# Altium schematic symbol library PMEG10020ELRX.SchLib: 1 symbol
Pins are listed as number, name and electrical type; pins without a type are passive.

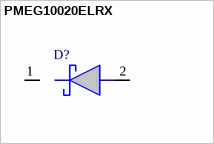
[diagram p0: symbol PMEG10020ELRX]

## PMEG10020ELRX
designator D?
Schottky Diodes & Rectifiers 2A Schottky Barrier Rectifier; Manufacturer_Name: Nexperia; Geometry.Height: 1.1mm; Manufacturer_Part_Number: PMEG10020ELRX; Mouser Part Number: 771-PMEG10020ELRX; Mouser Price/Stock: https://www.mouser.co.uk/ProductDetail/Nexperia/PMEG10020ELRX?qs=bel5lzaZNxQmrosujSY5VA%3D%3D; Arrow Part Number: PMEG10020ELRX; Arrow Price/Stock: https://www.arrow.com/en/products/pmeg10020elrx/nexperia; Mouser Testing Part Number: *; Mouser Testing Price/Stock: *; Datasheet Link: https://assets.nexperia.com/documents/data-sheet/PMEG10020ELR.pdf
footprint SODFL3517X110N
pins: 1 K, 2 A